# Altium footprint library Header_3-Pos_Sullins_GRPB031VWTC-RC.PcbLib: 1 footprints
Each footprint in its own frame and in the unit in brackets; x right, y up, seen from the top. Pads: shape width x height; smd on the part's side, far side on the other; paste and mask are expansions set on the pad; w line width, h text height; cw(c..) or ccw(c..) is an arc to the next point about the centre after c.
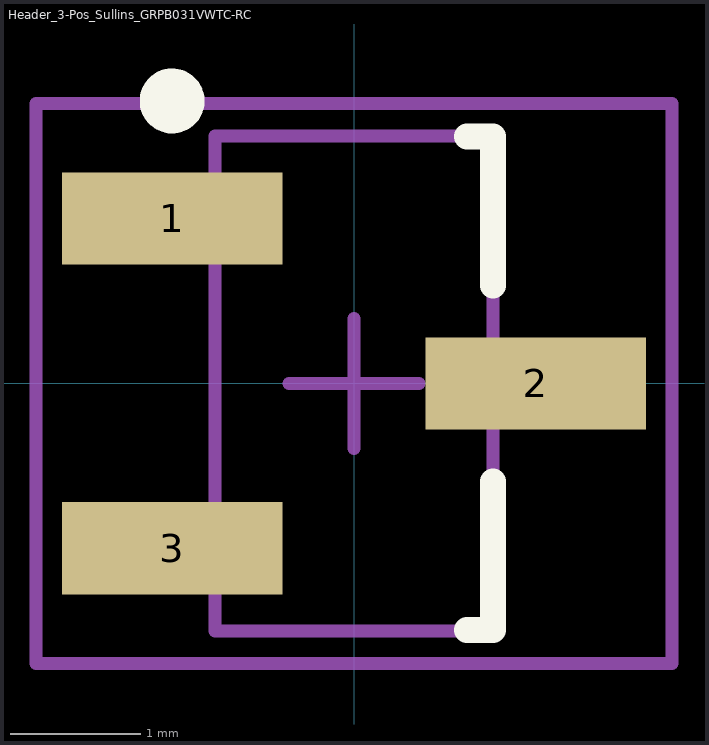
[diagram p0: the footprint, top view; thin cyan lines are the x and y axes]

## Header_3-Pos_Sullins_GRPB031VWTC-RC [mm]
height 5.1
pads (3):
  rect 1.7x0.71 smd: 1(-1.4,1.27) 2(1.4,0) 3(-1.4,-1.27)
Top Overlay:
  circle w0.25: c-1.4,2.175 r0.125
  lines w0.2: 0.87,-1.9 1.07,-1.9 1.07,-0.755 ; 0.87,1.9 1.07,1.9 1.07,0.755
Mechanical 13:
  lines w0.1: -1.07,-1.905 1.07,-1.905 1.07,1.905 -1.07,1.905 -1.07,-1.905
Mechanical 15:
  lines w0.1: -0.5,0 0.5,0 ; 0,-0.5 0,0.5 ; -2.45,-2.155 2.45,-2.155 2.45,2.155 -2.45,2.155 -2.45,-2.155
3D body: height 5.1, standoff 0, extent -1.07,-1.905 1.07,1.905